# Altium footprint library MyLib.PcbLib: 96 footprints (part 4 of 6)
Each footprint in its own frame and in the unit in brackets; x right, y up, seen from the top. Pads: shape width x height; smd on the part's side, far side on the other; paste and mask are expansions set on the pad; w line width, h text height; cw(c..) or ccw(c..) is an arc to the next point about the centre after c.
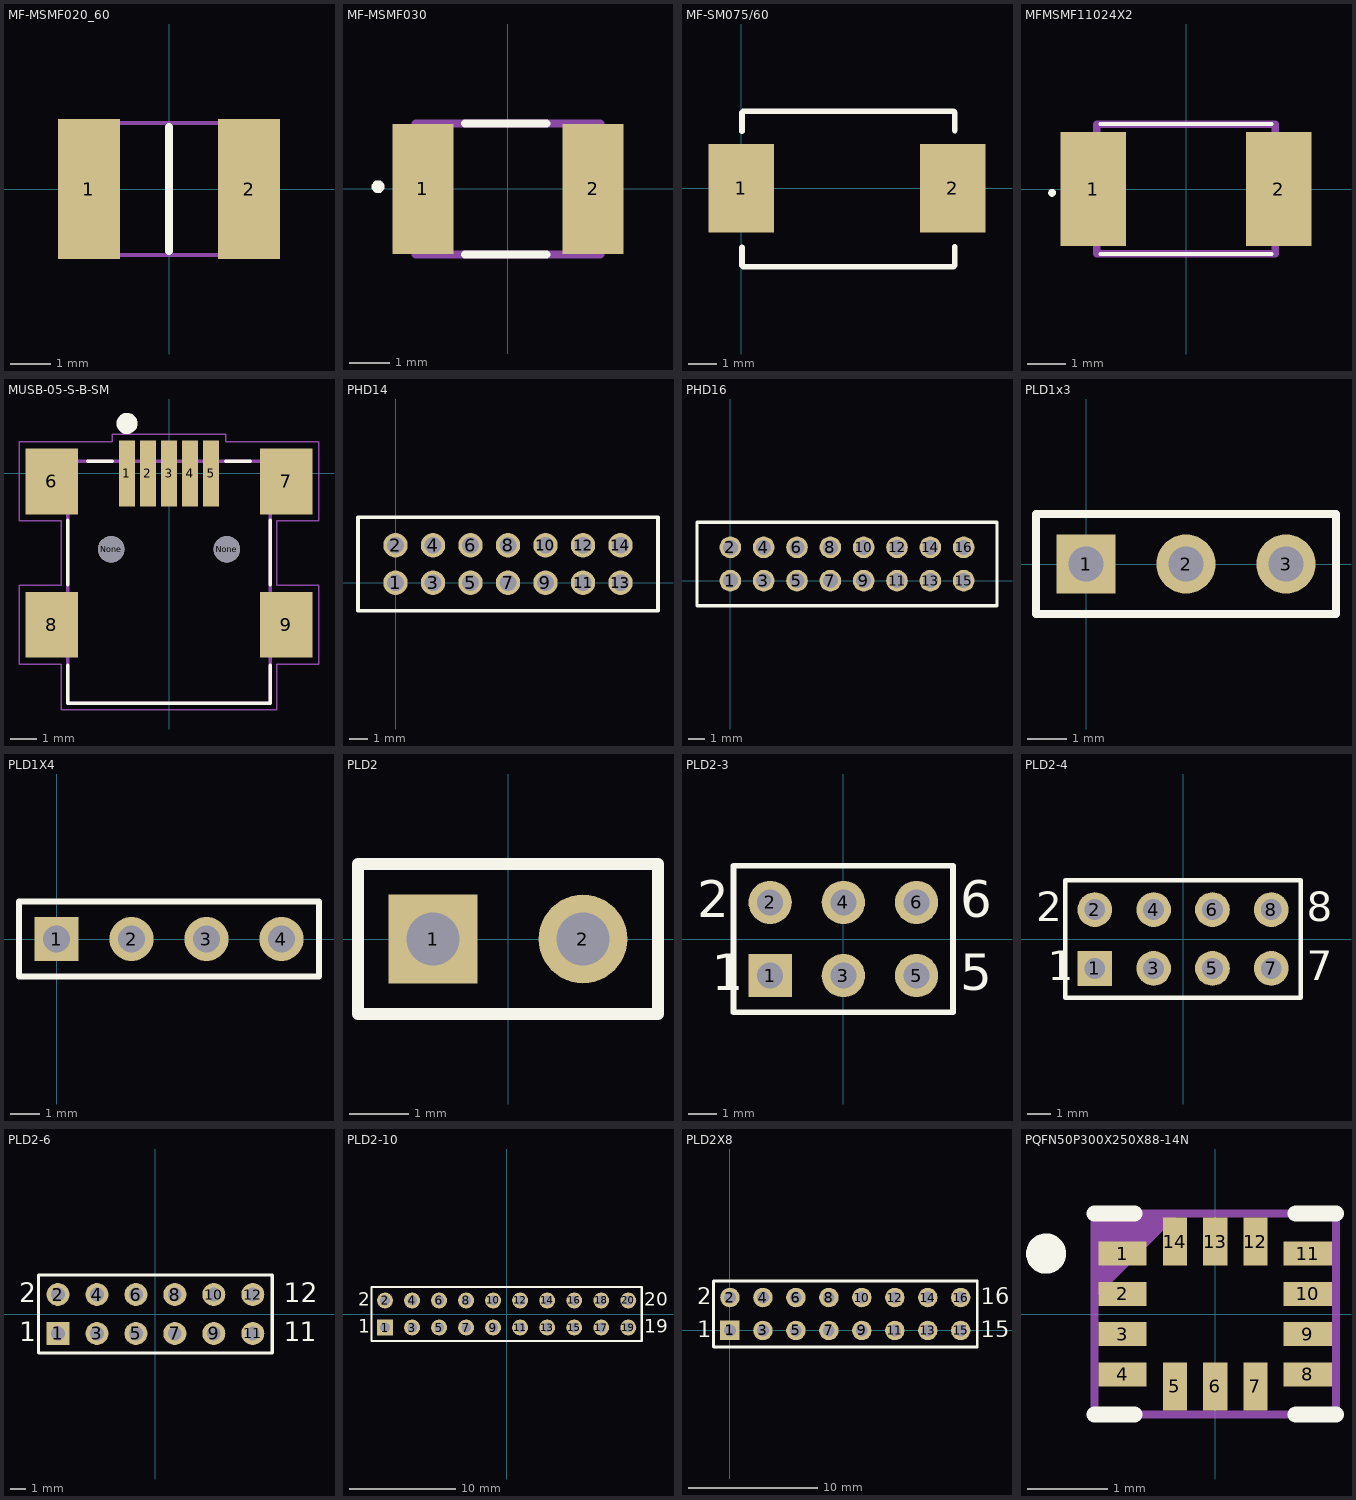
[diagram p3: the footprints below, top view; thin cyan lines are the x and y axes]

## MF-MSMF020_60 [mm]
pads (2):
  rect 1.52x3.43 smd: 1(-1.965,0) 2(1.965,0)
Top Overlay:
  lines w0.2: 0,-1.52 0,1.52
Mechanical 15:
  lines w0.1: -2.275,-1.62 -2.275,1.62 2.275,1.62 2.275,-1.62 -2.275,-1.62
3D body "MF-MSMF020_60-2.stp": height 0.3, standoff 0, extent -2.275,-1.62 2.275,1.62

## MF-MSMF030 [mm]
pads (2):
  rect 1.5x3.2 smd: 1(-2.1,0) 2(2.1,0)
Top Overlay:
  circle w0.2: c-3.205,0.056 r0.059
  lines w0.2: -1.063,-1.62 0.947,-1.62 ; -1.063,1.62 0.947,1.62
Mechanical 15:
  lines w0.2: -2.275,-1.62 2.275,-1.62 2.275,1.62 -2.275,1.62 -2.275,-1.62

## MF-SM075/60 [mm]
pads (2):
  rect 2.3x3.1 smd: 1(0,0) 2(7.4,0)
Top Overlay:
  lines w0.2: 0.025,-2.698 0.025,-2.075 ; 0.025,2 0.025,2.647 0.073,2.695 7.428,2.695 7.475,2.648 7.475,2.025 ; 0.072,-2.745 7.427,-2.745 ; 7.475,-2.697 7.475,-2.05
3D body "mf-sm075_60.stp": height 3.14, standoff -0.05, extent 0.073,-2.745 7.428,2.695

## MFMSMF11024X2 [mm]
pads (2):
  rect 1.68x2.95 smd: 1(-2.39,0) 2(2.39,0)
Top Overlay:
  lines w0.1: -2.2,-1.67 2.2,-1.67 ; -2.2,1.67 2.2,1.67 ; -3.5,-0.1 ccw(c-3.45,-0.1) -3.4,-0.1 ccw(c-3.45,-0.1) -3.5,-0.1
Mechanical 15:
  lines w0.2: -2.3,-1.67 2.3,-1.67 2.3,1.67 -2.3,1.67 -2.3,-1.67

## MUSB-05-S-B-SM [mm]
pads (11):
  rect 0.6x2.5 smd: 1(-1.6,0) 2(-0.8,0) 3(0,0) 4(0.8,0) 5(1.6,0)
  rect 2x2.5 smd: 6(-4.45,-0.3) 7(4.45,-0.3) 8(-4.45,-5.75) 9(4.45,-5.75)
  round 1 hole 1 unplated: None(-2.2,-2.88) None(2.2,-2.88)
Top Overlay:
  circle w0.4: c-1.6,1.9 r0.2
  lines w0.127: -3.85,-7.28 -3.85,-8.73 3.85,-8.73 3.85,-7.28 ; -3.85,-4.23 -3.85,-1.78 ; -3.1,0.47 -2.15,0.47 ; 2.15,0.47 3.1,0.47 ; 3.85,-4.23 3.85,-1.78
Mechanical 15:
  lines w0.127: -3.85,-8.73 -3.85,0.47 3.85,0.47 3.85,-8.73 -3.85,-8.73
Mechanical 16:
  lines w0.05: -5.7,-7.25 -4.1,-7.25 -4.1,-8.98 4.1,-8.98 4.1,-7.25 5.7,-7.25 5.7,-4.25 4.1,-4.25 4.1,-1.8 5.7,-1.8 5.7,1.2 2.15,1.2 2.15,1.5 -2.15,1.5 -2.15,1.2 -5.7,1.2 -5.7,-1.8 -4.1,-1.8 -4.1,-4.25 -5.7,-4.25 -5.7,-7.25
3D body "65100516121.stp": height 3.92, standoff -0.98, extent -4.8,-8.825 4.8,0.425

## PHD14 [mm]
pads (14):
  round 1.3 hole 0.9: 1(0,0) 2(0,2) 3(2,0) 4(2,2) 5(4,0) 6(4,2) 7(6,0) 8(6,2) 9(8,0) 10(8,2) 11(10,0) 12(10,2) 13(12,0) 14(12,2)
Top Overlay:
  lines w0.2: 14,3.475 14,-1.5 -2,-1.5 -2,3.5 14,3.5

## PHD16 [mm]
pads (16):
  round 1.3 hole 0.9: 1(0,0) 2(0,2) 3(2,0) 4(2,2) 5(4,0) 6(4,2) 7(6,0) 8(6,2) 9(8,0) 10(8,2) 11(10,0) 12(10,2) 13(12,0) 14(12,2) 15(14,0) 16(14,2)
Top Overlay:
  lines w0.2: -2,-1.5 -2,3.5 16,3.5 16,-1.5 -2,-1.5
3D body "User Library-B16B-PHDSS.step": height 6.5, standoff -3, extent -1.95,-1.5 15.95,3.5

## PLD1x3 [mm]
pads (3):
  rect 1.5x1.5 hole 0.9: 1(0,0)
  round 1.5 hole 0.9: 2(2.54,0) 3(5.08,0)
Top Overlay:
  lines w0.2: -1.27,-1.27 -1.27,1.27 6.35,1.27 6.35,-1.27 -1.27,-1.27
3D body "User Library-PLS-3.step": height 8.54, standoff -3, extent -1.26,-1.275 6.36,1.265

## PLD1X4 [mm]
pads (4):
  rect 1.5x1.5 hole 0.9: 1(0,0)
  round 1.5 hole 0.9: 2(2.54,0) 3(5.08,0) 4(7.62,0)
Top Overlay:
  lines w0.2: -1.27,-1.27 8.89,-1.27 8.89,1.27 -1.27,1.27 -1.27,-1.27
3D body "User Library-PLD-4-1.step": height 8.6, standoff -3.04, extent -1.28,-1.27 8.88,1.27

## PLD2 [mm]
pads (2):
  rect 1.5x1.5 hole 0.9: 1(-1.27,0)
  round 1.5 hole 0.9: 2(1.27,0)
Top Overlay:
  lines w0.2: -2.54,-1.27 -2.54,1.27 2.54,1.27 2.54,-1.27 -2.54,-1.27
3D body "User Library-PLD-2.step": height 8.5, standoff -3, extent -2.5,-1.265 2.5,1.275

## PLD2-3 [mm]
pads (6):
  rect 1.5x1.5 hole 0.9: 1(-2.54,-1.27)
  round 1.5 hole 0.9: 2(-2.54,1.27) 3(0,-1.27) 4(0,1.27) 5(2.54,-1.27) 6(2.54,1.27)
Top Overlay:
  lines w0.2: -1.058,-2.54 3.81,-2.54 ; 3.81,-2.54 3.81,2.54 -3.81,2.54 -3.81,-2.54 3.81,-2.54
  text "6" at 4.064,0.762 h1.27
  text "5" at 4.064,-1.778 h1.27
  text "2" at -5.08,0.762 h1.27
  text "1" at -4.572,-1.778 h1.27
3D body "User Library-PLD-2-3.STEP": height 8.6, standoff -2.5, extent -3.835,-2.525 3.785,2.555

## PLD2-4 [mm]
pads (8):
  rect 1.5x1.5 hole 0.9: 1(-3.81,-1.27)
  round 1.5 hole 0.9: 2(-3.81,1.27) 3(-1.27,-1.27) 4(-1.27,1.27) 5(1.27,-1.27) 6(1.27,1.27) 7(3.81,-1.27) 8(3.81,1.27)
Top Overlay:
  lines w0.2: -5.08,-2.54 -5.08,2.54 5.08,2.54 5.08,-2.54 -5.08,-2.54
  text "8" at 5.334,0.762 h1.27
  text "7" at 5.334,-1.778 h1.27
  text "1" at -5.842,-1.778 h1.27
  text "2" at -6.35,0.762 h1.27
3D body "User Library-PLD-2-4.step": height 8.5, standoff -3, extent -5.07,-2.5 5.09,2.5

## PLD2-6 [mm]
pads (12):
  rect 1.5x1.5 hole 0.9: 1(-6.35,-1.27)
  round 1.5 hole 0.9: 2(-6.35,1.27) 3(-3.81,-1.27) 4(-3.81,1.27) 5(-1.27,-1.27) 6(-1.27,1.27) 7(1.27,-1.27) 8(1.27,1.27) 9(3.81,-1.27) 10(3.81,1.27) 11(6.35,-1.27) 12(6.35,1.27)
Top Overlay:
  lines w0.2: -7.62,-2.54 7.62,-2.54 7.62,2.54 -7.62,2.54 -7.62,-2.54
  text "12" at 8.382,0.762 h1.27
  text "1" at 9.398,-1.778 h1.27
  text "1" at 8.382,-1.778 h1.27
  text "1" at -8.89,-1.778 h1.27
  text "2" at -8.89,0.762 h1.27
3D body "User Library-PLD-2-6.STEP": height 2.45, standoff -8.92, extent -7.57,-2.59 7.67,2.49

## PLD2-10 [mm]
pads (20):
  rect 1.5x1.5 hole 0.9: 1(-11.43,-1.27)
  round 1.5 hole 0.9: 2(-11.43,1.27) 3(-8.89,-1.27) 4(-8.89,1.27) 5(-6.35,-1.27) 6(-6.35,1.27) 7(-3.81,-1.27) 8(-3.81,1.27) 9(-1.27,-1.27) 10(-1.27,1.27) 11(1.27,-1.27) 12(1.27,1.27) 13(3.81,-1.27) 14(3.81,1.27) 15(6.35,-1.27) 16(6.35,1.27) 17(8.89,-1.27) 18(8.89,1.27) 19(11.43,-1.27) 20(11.43,1.27)
Top Overlay:
  lines w0.2: -12.7,-2.54 -12.7,2.54 -10.795,2.54 12.7,2.54 12.7,-2.54 -10.795,-2.54 -12.7,-2.54
  text "2" at -13.97,0.762 h1.27
  text "1" at -13.97,-1.778 h1.27
  text "19" at 12.954,-1.778 h1.27
  text "20" at 12.954,0.762 h1.27
3D body "User Library-PLD-2-10.step": height 8.54, standoff -2.96, extent -12.675,-2.525 12.725,2.555

## PLD2X8 [mm]
pads (16):
  rect 1.5x1.5 hole 0.9: 1(0,0)
  round 1.5 hole 0.9: 2(0,2.54) 3(2.54,0) 4(2.54,2.54) 5(5.08,0) 6(5.08,2.54) 7(7.62,0) 8(7.62,2.54) 9(10.16,0) 10(10.16,2.54) 11(12.7,0) 12(12.7,2.54) 13(15.24,0) 14(15.24,2.54) 15(17.78,0) 16(17.78,2.54)
Top Overlay:
  lines w0.2: -1.27,-1.27 19.05,-1.27 19.05,3.81 -1.27,3.81 -1.27,-1.27
  text "16" at 19.304,2.032 h1.27
  text "15" at 19.304,-0.508 h1.27
  text "1" at -2.54,-0.508 h1.27
  text "2" at -2.54,2.032 h1.27
3D body "DS1021-2x8SF11.stp": height 8.6, standoff -3, extent -1.27,-1.23 19.05,3.77

## PQFN50P300X250X88-14N [mm]
pads (14):
  rect 0.6x0.3 smd: 1(-1.15,0.75) 2(-1.15,0.25) 3(-1.15,-0.25) 4(-1.15,-0.75) 8(1.15,-0.75) 9(1.15,-0.25) 10(1.15,0.25) 11(1.15,0.75)
  rect 0.3x0.6 smd: 5(-0.5,-0.9) 6(0,-0.9) 7(0.5,-0.9) 12(0.5,0.9) 13(0,0.9) 14(-0.5,0.9)
Top Overlay:
  circle w0.25: c-2.1,0.75 r0.125
  lines w0.2: -1.5,-1.25 -1,-1.25 ; -1.5,1.25 -1,1.25 ; 1,-1.25 1.5,-1.25 ; 1,1.25 1.5,1.25
Mechanical 15:
  lines w0.1: -1.5,0.25 -0.5,1.25 ; -1.5,0.35 -0.6,1.25 ; -1.5,0.45 -0.7,1.25 ; -1.5,0.55 -0.8,1.25 ; -1.5,0.65 -0.9,1.25 ; -1.5,0.75 -1,1.25 ; -1.5,0.85 -1.1,1.25 ; -1.5,0.95 -1.2,1.25 ; -1.5,1.05 -1.3,1.25 ; -1.5,1.15 -1.4,1.25 ; -1.5,-1.25 1.5,-1.25 1.5,1.25 -1.5,1.25 -1.5,-1.25